# Altium schematic symbol library Audio.SchLib: 4 symbols
Pins are listed as number, name and electrical type; pins without a type are passive.

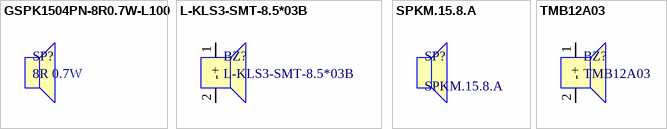
[diagram p0: symbols GSPK1504PN-8R0.7W-L100 to TMB12A03]

## GSPK1504PN-8R0.7W-L100
designator SP?, comment 8R 0.7W
13MM 8R 0.7W 90dB ±3dB; Manufacturer: INGHAi; Manufacturer Part Number: GSPK1504PN-8R0.7W-L100; Purpose Of Usage: BASIC; Category: AUDIO; Sub-Category: SPEAKER; Supplier 1: Özdisan; Supplier Part Number 1: GSPK1504PN-8R0.7W-L100; Stock ID: ??; Local Supplier: GENERAL; Price 10K: 0.5; Mount: MECH
footprint GSPK1335PN-8R0.7W-L100

## L-KLS3-SMT-8.5*03B
designator BZ?
8.5mm 3V 2300+300Hz H:3mm; Manufacturer: KLS; Purpose Of Usage: BASIC; Category: AUDIO; Manufacturer Part Number: L-KLS3-SMT-8.5*03B; Sub-Category: BUZZER; Supplier 1: Özdisan; Supplier Part Number 1: L-KLS3-SMT-8.5*03B; Stock ID: ??; Local Supplier: ÖZDİSAN; Mount: SMD
footprint MTS8540A05LM-01
pins: 1 +, 2 -

## SPKM.15.8.A
designator SP?
Speaker 8 Ohm 500MW Top Port 87DB; Manufacturer: Taoglas; Purpose Of Usage: BASIC; Manufacturer Part Number: SPKM.15.8.A; Category: AUDIO; Local Supplier: FUTURE; Mount: MECH; Price 10K: 0.6; Stock ID: ??; Sub-Category: SPEAKER; Supplier 1: Digi-Key; Supplier Part Number 1: 931-SPKM.15.8.A-ND
footprint SPKM.15.8.A

## TMB12A03
designator BZ?
12MM 3V 2300+300Hz H:9,5MM; Manufacturer: YXDZ; Purpose Of Usage: BASIC; Category: AUDIO; Manufacturer Part Number: TMB12A03; Sub-Category: BUZZER; Supplier 1: Özdisan; Supplier Part Number 1: YX-YT12095/TMB12A03; Stock ID: ??; Local Supplier: ÖZDİSAN; Mount: THT
footprint Buzzer12mmx9.5mm
pins: 1 +, 2 -